# Altium footprint library Altium LCOGT PCB LIB.PCBLIB: 329 footprints (part 20 of 21)
Each footprint in its own frame and in the unit in brackets; x right, y up, seen from the top. Pads: shape width x height; smd on the part's side, far side on the other; paste and mask are expansions set on the pad; w line width, h text height; cw(c..) or ccw(c..) is an arc to the next point about the centre after c.
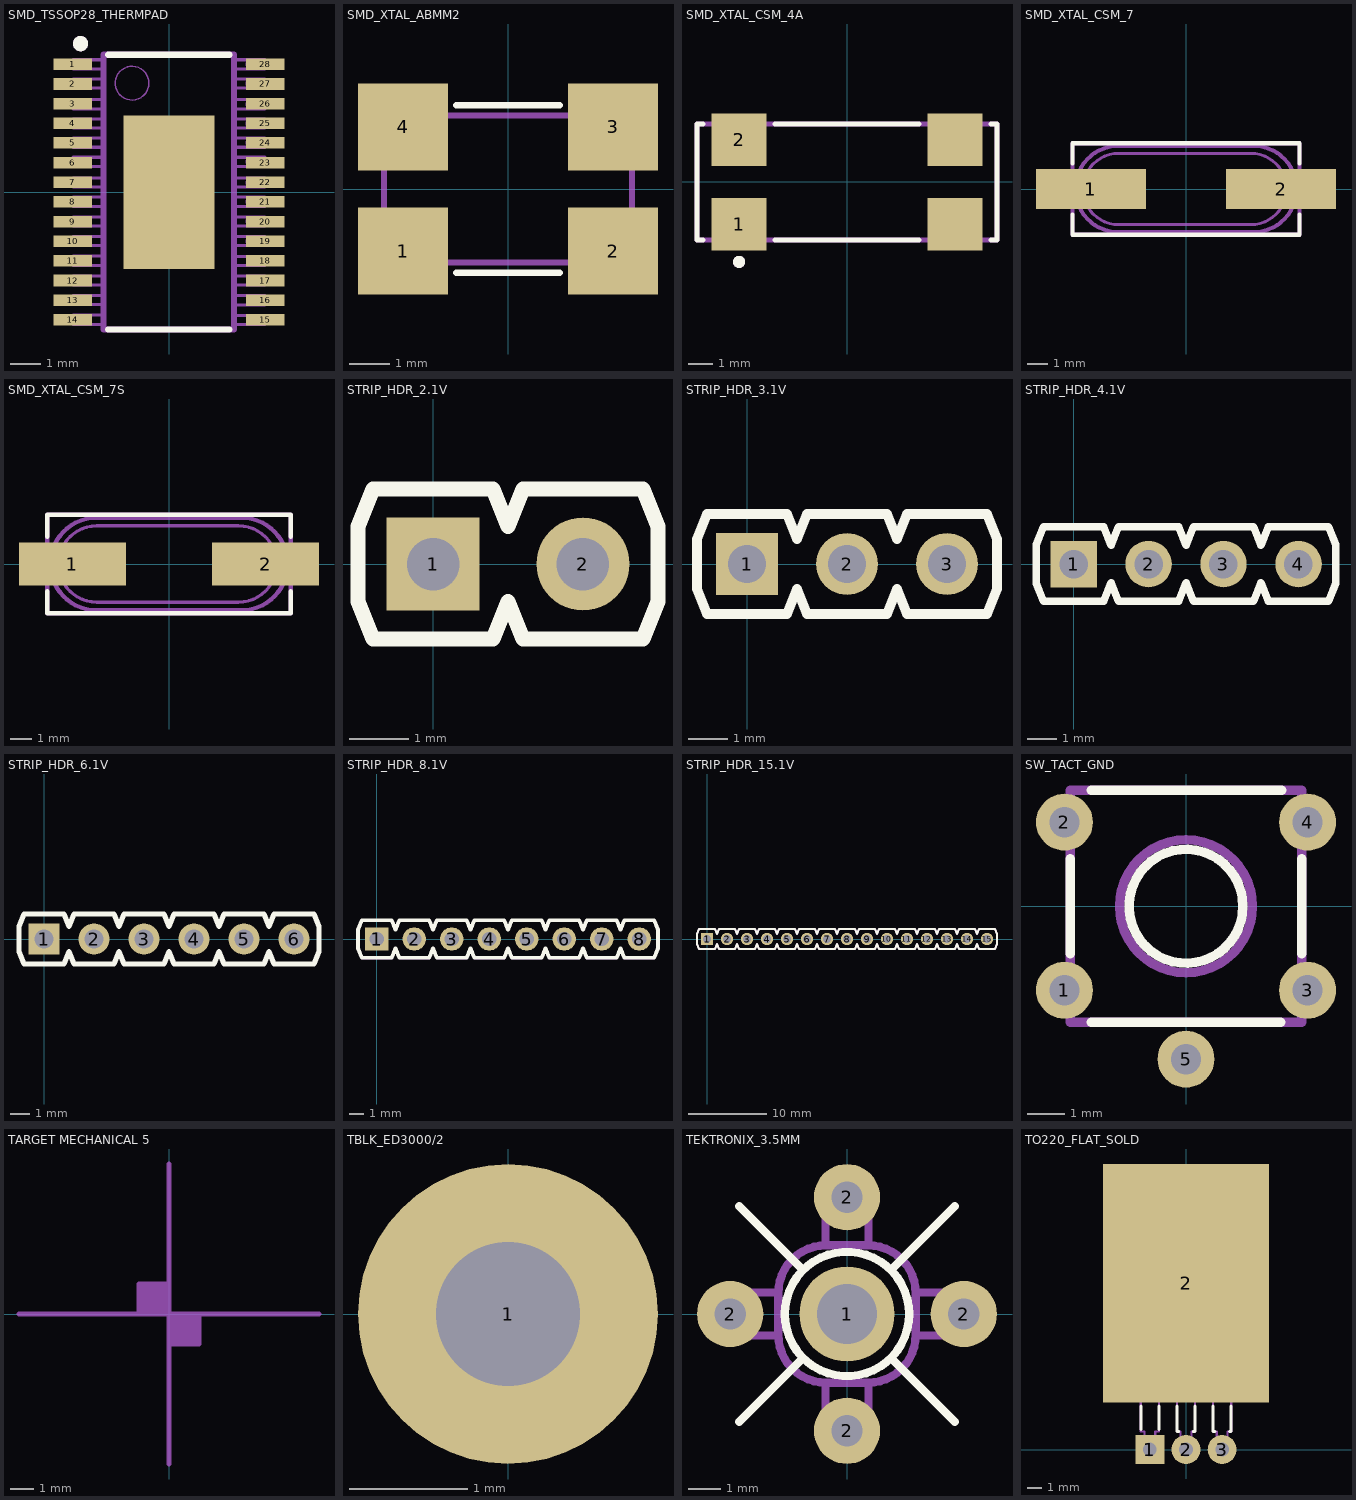
[diagram p19: the footprints below, top view; thin cyan lines are the x and y axes]

## SMD_TSSOP28_THERMPAD [mil]
pads (29):
  rect 50x15 smd: 1(-125.16,166.34) 2(-125.16,140.75) 3(-125.16,115.16) 4(-125.16,89.57) 5(-125.16,63.98) 6(-125.16,38.39) 7(-125.16,12.8) 8(-125.16,-12.8) 9(-125.16,-38.39) 10(-125.16,-63.98) 11(-125.16,-89.57) 12(-125.16,-115.16) 13(-125.16,-140.75) 14(-125.16,-166.34) 15(125.16,-166.34) 16(125.16,-140.75) 17(125.16,-115.16) 18(125.16,-89.57) 19(125.16,-63.98) 20(125.16,-38.39) 21(125.16,-12.8) 22(125.16,12.8) 23(125.16,38.39) 24(125.16,63.98) 25(125.16,89.57) 26(125.16,115.16) 27(125.16,140.75) 28(125.16,166.34)
  rect 118x200 smd: ""(0,0)
TopOverlay:
  circle w8: c-115.16,193.34 r6
  lines w8: -119.16,193.34 -111.16,193.34 ; -115.16,189.34 -115.16,197.34 ; -79.16,-179.02 78.84,-179.02 ; -79.16,178.84 78.84,178.84
Mechanical3:
  circle w8: c-115.16,193.34 r6
  circle w2: c-48.16,141.84 r22
  lines w2: -112.16,-168.2 -112.16,-164.2 ; -112.16,-142.61 -112.16,-138.61 ; -112.16,-117.02 -112.16,-113.02 ; -112.16,-91.43 -112.16,-87.43 ; -112.16,-65.84 -112.16,-61.84 ; -112.16,-40.25 -112.16,-36.25 ; -112.16,-14.66 -112.16,-10.66 ; -112.16,10.34 -112.16,14.34 ; -112.16,37.34 -112.16,41.34 ; -112.16,62.34 -112.16,66.34 ; -112.16,87.34 -112.16,91.34 ; -112.16,112.34 -112.16,116.34 ; -112.16,139.34 -112.16,143.34 ; -112.16,164.34 -112.16,168.34 ; -101.16,-168.2 -101.16,-164.2 ; -101.16,-142.61 -101.16,-138.61 ; -101.16,-117.02 -101.16,-113.02 ; -101.16,-91.43 -101.16,-87.43 ; -101.16,-65.84 -101.16,-61.84 ; -101.16,-40.25 -101.16,-36.25 ; -101.16,-14.66 -101.16,-10.66 ; -101.16,10.34 -101.16,14.34 ; -101.16,37.34 -101.16,41.34 ; -101.16,62.34 -101.16,66.34 ; -101.16,87.34 -101.16,91.34 ; -101.16,112.34 -101.16,116.34 ; -101.16,139.34 -101.16,143.34 ; -101.16,164.34 -101.16,168.34 ; 100.84,-65.84 100.84,-61.84 ; 100.84,-40.25 100.84,-36.25 ; 100.84,-14.66 100.84,-10.66 ; 100.84,10.34 100.84,14.34 ; 100.84,37.34 100.84,41.34 ; 100.84,62.34 100.84,66.34 ; 100.84,87.34 100.84,91.34 ; 100.84,112.34 100.84,116.34 ; 100.84,139.34 100.84,143.34 ; 100.84,164.34 100.84,168.34 ; 101.16,-168.47 101.16,-164.47 ; 101.16,-142.88 101.16,-138.88 ; 101.16,-117.29 101.16,-113.29 ; 101.16,-91.7 101.16,-87.7 ; 111.84,-65.84 111.84,-61.84 ; 111.84,-40.25 111.84,-36.25 ; 111.84,-14.66 111.84,-10.66 ; 111.84,10.34 111.84,14.34 ; 111.84,37.34 111.84,41.34 ; 111.84,62.34 111.84,66.34 ; 111.84,87.34 111.84,91.34 ; 111.84,112.34 111.84,116.34 ; 111.84,139.34 111.84,143.34 ; 111.84,164.34 111.84,168.34 ; 112.16,-168.47 112.16,-164.47 ; 112.16,-142.88 112.16,-138.88 ; 112.16,-117.29 112.16,-113.29 ; 112.16,-91.7 112.16,-87.7
  lines w4: -85.16,-172.2 -125.16,-172.2 -125.16,-160.2 -85.16,-160.2 ; -85.16,-146.61 -125.16,-146.61 -125.16,-134.61 -85.16,-134.61 ; -85.16,-121.02 -125.16,-121.02 -125.16,-109.02 -85.16,-109.02 ; -85.16,-95.43 -125.16,-95.43 -125.16,-83.43 -85.16,-83.43 ; -85.16,-69.84 -125.16,-69.84 -125.16,-57.84 -85.16,-57.84 ; -85.16,-44.25 -125.16,-44.25 -125.16,-32.25 -85.16,-32.25 ; -85.16,-18.66 -125.16,-18.66 -125.16,-6.66 -85.16,-6.66 ; -85.16,6.34 -125.16,6.34 -125.16,18.34 -85.16,18.34 ; -85.16,33.34 -125.16,33.34 -125.16,45.34 -85.16,45.34 ; -85.16,58.34 -125.16,58.34 -125.16,70.34 -85.16,70.34 ; -85.16,83.34 -125.16,83.34 -125.16,95.34 -85.16,95.34 ; -85.16,108.34 -125.16,108.34 -125.16,120.34 -85.16,120.34 ; -85.16,135.34 -125.16,135.34 -125.16,147.34 -85.16,147.34 ; -85.16,160.34 -125.16,160.34 -125.16,172.34 -85.16,172.34 ; 84.84,-69.84 124.84,-69.84 124.84,-57.84 84.84,-57.84 ; 84.84,-44.25 124.84,-44.25 124.84,-32.25 84.84,-32.25 ; 84.84,-18.66 124.84,-18.66 124.84,-6.66 84.84,-6.66 ; 84.84,6.34 124.84,6.34 124.84,18.34 84.84,18.34 ; 84.84,33.34 124.84,33.34 124.84,45.34 84.84,45.34 ; 84.84,58.34 124.84,58.34 124.84,70.34 84.84,70.34 ; 84.84,83.34 124.84,83.34 124.84,95.34 84.84,95.34 ; 84.84,108.34 124.84,108.34 124.84,120.34 84.84,120.34 ; 84.84,135.34 124.84,135.34 124.84,147.34 84.84,147.34 ; 84.84,160.34 124.84,160.34 124.84,172.34 84.84,172.34 ; 85.16,-172.47 125.16,-172.47 125.16,-160.47 85.16,-160.47 ; 85.16,-146.88 125.16,-146.88 125.16,-134.88 85.16,-134.88 ; 85.16,-121.29 125.16,-121.29 125.16,-109.29 85.16,-109.29 ; 85.16,-95.7 125.16,-95.7 125.16,-83.7 85.16,-83.7
  lines w8: -119.16,193.34 -111.16,193.34 ; -115.16,189.34 -115.16,197.34 ; -85.16,-179.02 84.84,-179.02 ; -85.16,-178.66 -85.16,-76.66 -85.16,178.34 ; -85.16,178.84 84.84,178.84 ; 84.84,-178.66 84.84,-76.66 84.84,178.34

## SMD_XTAL_ABMM2 [mil]
pads (4):
  rect 87x84 smd: 1(-101.5,-60) 2(101.5,-60) 3(101.5,60) 4(-101.5,60)
TopOverlay:
  lines w6: -50,-81 50,-81 ; -50,81 50,81
Mechanical3:
  lines w6: -120,-35.5 -120,61 -110,71 -90,71 -30,71 0,71 110,71 120,61 120,-61 110,-71 -110,-71 -120,-61 -120,-35

## SMD_XTAL_CSM_4A [mil]
pads (4):
  rect 90x86 smd: 1(-177,-69) 2(-177,69) ""(177,-69) ""(177,69)
TopOverlay:
  circle w8: c-177,-131 r6
  lines w8: -236,-95 -246,-95 -246,95 -236,95 ; -181,-131 -173,-131 ; -177,-135 -177,-127 ; -118,-95 118,-95 ; -118,95 118,95 ; 236,-95 246,-95 246,95 236,95
Mechanical3:
  circle w8: c-177,-131 r6
  lines w8: -181,-131 -173,-131 ; -177,-135 -177,-127 ; -246,-95 -246,95 246,95 246,-95 -246,-95

## SMD_XTAL_CSM_7 [mil]
pads (2):
  rect 216x78 smd: 1(-187,0) 2(187,0)
TopOverlay:
  lines w8: -223,-50 -223,-90 223,-90 223,-50 ; -223,50 -223,90 223,90 223,50
Mechanical3:
  lines w4: -223,-12 -250,-12 -250,12 -223,12 ; 223,-12 250,-12 250,12 223,12
  lines w6: -132.5,-70 cw(c-132.5,0) -132.5,70 127.5,70 cw(c127.5,0) 127.5,-70 -132.5,-70
  lines w8: -223,-90 223,-90 223,90 -223,90 -223,-90 ; -132.5,-85 cw(c-132.5,0) -132.5,85 132.5,85 cw(c132.5,0) 132.5,-85 -132.5,-85

## SMD_XTAL_CSM_7S [mil]
pads (2):
  rect 196x78 smd: 1(-177,0) 2(177,0)
TopOverlay:
  lines w8: -223,-50 -223,-90 223,-90 223,-50 ; -223,50 -223,90 223,90 223,50
Mechanical3:
  lines w4: -223,-12 -250,-12 -250,12 -223,12 ; 223,-12 250,-12 250,12 223,12
  lines w6: -132.5,-70 cw(c-132.5,0) -132.5,70 127.5,70 cw(c127.5,0) 127.5,-70 -132.5,-70
  lines w8: -223,-90 -223,90 223,90 223,-90 -223,-90 ; -132.5,-85 cw(c-132.5,0) -132.5,85 132.5,85 cw(c132.5,0) 132.5,-85 -132.5,-85

## STRIP_HDR_2.1V [mil]
pads (2):
  rect 62x62 hole 35: 1(0,0)
  round 62 hole 35: 2(100,0)
TopOverlay:
  lines w10: -50,-25 -40,-50 40,-50 50,-25 60,-50 140,-50 150,-25 150,25 140,50 60,50 50,25 40,50 -40,50 -50,25 -50,-25
Mechanical3:
  lines w2: -13,-13 -5,-5 ; -13,13 -5,5 ; 13,-13 5,-5 ; 13,13 5,5 ; 87,-13 95,-5 ; 87,13 95,5 ; 113,-13 105,-5 ; 113,13 105,5 ; -5,-5 5,-5 ; -5,-5 -5,5 ; -5,5 5,5 ; 5,-5 5,5 ; 95,-5 105,-5 ; 95,-5 95,5 ; 95,5 105,5 ; 105,-5 105,5
  lines w4: -13,-13 13,-13 13,13 -13,13 -13,-13 ; 87,-13 113,-13 113,13 87,13 87,-13
  lines w8: -50,-25 -50,25 -40,50 40,50 50,25 60,50 140,50 150,25 150,-25 140,-50 60,-50 50,-25 40,-50 -40,-50 -50,-25

## STRIP_HDR_3.1V [mil]
pads (3):
  rect 62x62 hole 38: 1(0,0)
  round 62 hole 38: 2(100,0) 3(200,0)
TopOverlay:
  lines w10: 140,-50 150,-25 ; 140,-50 60,-50 50,-25 40,-50 -40,-50 -50,-25 -50,25 -40,50 40,50 50,25 60,50 140,50 ; 140,-50 150,-25 ; 140,50 150,25 ; 140,50 150,25 ; 150,-25 160,-50 240,-50 ; 150,25 160,50 240,50 ; 240,-50 250,-25 ; 240,-50 250,-25 ; 240,50 250,25 ; 240,50 250,25 ; 250,-25 250,25
Mechanical3:
  lines w2: -13,-13 -5,-5 ; -13,13 -5,5 ; 13,-13 5,-5 ; 13,13 5,5 ; 87,-13 95,-5 ; 87,13 95,5 ; 113,-13 105,-5 ; 113,13 105,5 ; 187,-13 195,-5 ; 187,13 195,5 ; 213,-13 205,-5 ; 213,13 205,5 ; -5,-5 -5,5 ; -5,-5 5,-5 ; -5,5 5,5 ; 5,-5 5,5 ; 95,-5 95,5 ; 95,-5 105,-5 ; 95,5 105,5 ; 105,-5 105,5 ; 195,-5 195,5 ; 195,-5 205,-5 ; 195,5 205,5 ; 205,-5 205,5
  lines w4: -13,-13 -13,13 13,13 13,-13 -13,-13 ; 87,-13 87,13 113,13 113,-13 87,-13 ; 187,-13 187,13 213,13 213,-13 187,-13
  lines w8: 140,-50 150,-25 ; 140,-50 150,-25 ; 140,-50 60,-50 50,-25 40,-50 -40,-50 -50,-25 -50,25 -40,50 40,50 50,25 60,50 140,50 ; 140,50 150,25 ; 140,50 150,25 ; 150,-25 160,-50 240,-50 ; 150,25 160,50 240,50 ; 240,-50 250,-25 ; 240,-50 250,-25 ; 240,50 250,25 ; 240,50 250,25 ; 250,-25 250,25

## STRIP_HDR_4.1V [mil]
pads (4):
  rect 62x62 hole 38: 1(0,0)
  round 62 hole 38: 2(100,0) 3(200,0) 4(300,0)
TopOverlay:
  lines w10: 140,-50 150,-25 ; 140,-50 60,-50 50,-25 40,-50 -40,-50 -50,-25 -50,25 -40,50 40,50 50,25 60,50 140,50 ; 140,-50 150,-25 ; 140,50 150,25 ; 140,50 150,25 ; 150,-25 160,-50 240,-50 ; 150,25 160,50 240,50 ; 240,-50 250,-25 ; 240,-50 250,-25 ; 240,50 250,25 ; 240,50 250,25 ; 250,-25 260,-50 340,-50 ; 250,25 260,50 340,50 ; 340,-50 350,-25 ; 340,-50 350,-25 ; 340,50 350,25 ; 340,50 350,25 ; 350,-25 350,25
Mechanical3:
  lines w2: -13,-13 -5,-5 ; -13,13 -5,5 ; 13,-13 5,-5 ; 13,13 5,5 ; 87,-13 95,-5 ; 87,13 95,5 ; 113,-13 105,-5 ; 113,13 105,5 ; 187,-13 195,-5 ; 187,13 195,5 ; 213,-13 205,-5 ; 213,13 205,5 ; 287,-13 295,-5 ; 287,13 295,5 ; 313,-13 305,-5 ; 313,13 305,5 ; -5,-5 5,-5 ; -5,-5 -5,5 ; -5,5 5,5 ; 5,-5 5,5 ; 95,-5 105,-5 ; 95,-5 95,5 ; 95,5 105,5 ; 105,-5 105,5 ; 195,-5 205,-5 ; 195,-5 195,5 ; 195,5 205,5 ; 205,-5 205,5 ; 295,-5 305,-5 ; 295,-5 295,5 ; 295,5 305,5 ; 305,-5 305,5
  lines w4: -13,-13 13,-13 13,13 -13,13 -13,-13 ; 87,-13 113,-13 113,13 87,13 87,-13 ; 187,-13 213,-13 213,13 187,13 187,-13 ; 287,-13 313,-13 313,13 287,13 287,-13
  lines w8: 140,-50 60,-50 50,-25 40,-50 -40,-50 -50,-25 -50,25 -40,50 40,50 50,25 60,50 140,50 ; 140,-50 150,-25 ; 140,-50 150,-25 ; 140,50 150,25 ; 140,50 150,25 ; 150,-25 160,-50 240,-50 ; 150,25 160,50 240,50 ; 240,-50 250,-25 ; 240,-50 250,-25 ; 240,50 250,25 ; 240,50 250,25 ; 250,-25 260,-50 340,-50 ; 250,25 260,50 340,50 ; 340,-50 350,-25 ; 340,-50 350,-25 ; 340,50 350,25 ; 340,50 350,25 ; 350,-25 350,25

## STRIP_HDR_6.1V [mil]
pads (6):
  rect 62x62 hole 38: 1(0,0)
  round 62 hole 38: 2(100,0) 3(200,0) 4(300,0) 5(400,0) 6(500,0)
TopOverlay:
  lines w10: 140,-50 150,-25 ; 140,-50 60,-50 50,-25 40,-50 -40,-50 -50,-25 -50,25 -40,50 40,50 50,25 60,50 140,50 ; 140,-50 150,-25 ; 140,50 150,25 ; 140,50 150,25 ; 150,-25 160,-50 240,-50 ; 150,25 160,50 240,50 ; 240,-50 250,-25 ; 240,-50 250,-25 ; 240,50 250,25 ; 240,50 250,25 ; 250,-25 260,-50 340,-50 ; 250,25 260,50 340,50 ; 340,-50 350,-25 ; 340,-50 350,-25 ; 340,50 350,25 ; 340,50 350,25 ; 350,-25 360,-50 440,-50 ; 350,25 360,50 440,50 ; 440,-50 450,-25 ; 440,-50 450,-25 ; 440,50 450,25 ; 440,50 450,25 ; 450,-25 460,-50 540,-50 550,-25 550,25 540,50 460,50 450,25
Mechanical3:
  lines w2: -13,-13 -5,-5 ; -13,13 -5,5 ; 13,-13 5,-5 ; 13,13 5,5 ; 87,-13 95,-5 ; 87,13 95,5 ; 113,-13 105,-5 ; 113,13 105,5 ; 187,-13 195,-5 ; 187,13 195,5 ; 213,-13 205,-5 ; 213,13 205,5 ; 287,-13 295,-5 ; 287,13 295,5 ; 313,-13 305,-5 ; 313,13 305,5 ; 387,-13 395,-5 ; 387,13 395,5 ; 413,-13 405,-5 ; 413,13 405,5 ; 487,-13 495,-5 ; 487,13 495,5 ; 513,-13 505,-5 ; 513,13 505,5 ; -5,-5 5,-5 ; -5,-5 -5,5 ; -5,5 5,5 ; 5,-5 5,5 ; 95,-5 105,-5 ; 95,-5 95,5 ; 95,5 105,5 ; 105,-5 105,5 ; 195,-5 205,-5 ; 195,-5 195,5 ; 195,5 205,5 ; 205,-5 205,5 ; 295,-5 305,-5 ; 295,-5 295,5 ; 295,5 305,5 ; 305,-5 305,5 ; 395,-5 405,-5 ; 395,-5 395,5 ; 395,5 405,5 ; 405,-5 405,5 ; 495,-5 505,-5 ; 495,-5 495,5 ; 495,5 505,5 ; 505,-5 505,5
  lines w4: -13,-13 13,-13 13,13 -13,13 -13,-13 ; 87,-13 113,-13 113,13 87,13 87,-13 ; 187,-13 213,-13 213,13 187,13 187,-13 ; 287,-13 313,-13 313,13 287,13 287,-13 ; 387,-13 413,-13 413,13 387,13 387,-13 ; 487,-13 513,-13 513,13 487,13 487,-13
  lines w8: 140,-50 60,-50 50,-25 40,-50 -40,-50 -50,-25 -50,25 -40,50 40,50 50,25 60,50 140,50 ; 140,-50 150,-25 ; 140,-50 150,-25 ; 140,50 150,25 ; 140,50 150,25 ; 150,-25 160,-50 240,-50 ; 150,25 160,50 240,50 ; 240,-50 250,-25 ; 240,-50 250,-25 ; 240,50 250,25 ; 240,50 250,25 ; 250,-25 260,-50 340,-50 ; 250,25 260,50 340,50 ; 340,-50 350,-25 ; 340,-50 350,-25 ; 340,50 350,25 ; 340,50 350,25 ; 350,-25 360,-50 440,-50 ; 350,25 360,50 440,50 ; 440,-50 450,-25 ; 440,-50 450,-25 ; 440,50 450,25 ; 440,50 450,25 ; 450,-25 460,-50 540,-50 550,-25 550,25 540,50 460,50 450,25

## STRIP_HDR_8.1V [mil]
pads (8):
  rect 62x62 hole 38: 1(0,0)
  round 62 hole 38: 2(100,0) 3(200,0) 4(300,0) 5(400,0) 6(500,0) 7(600,0) 8(700,0)
TopOverlay:
  lines w10: 140,-50 150,-25 ; 140,-50 60,-50 50,-25 40,-50 -40,-50 -50,-25 -50,25 -40,50 40,50 50,25 60,50 140,50 ; 140,-50 150,-25 ; 140,50 150,25 ; 140,50 150,25 ; 150,-25 160,-50 240,-50 ; 150,25 160,50 240,50 ; 240,-50 250,-25 ; 240,-50 250,-25 ; 240,50 250,25 ; 240,50 250,25 ; 250,-25 260,-50 340,-50 ; 250,25 260,50 340,50 ; 340,-50 350,-25 ; 340,-50 350,-25 ; 340,50 350,25 ; 340,50 350,25 ; 350,-25 360,-50 440,-50 ; 350,25 360,50 440,50 ; 440,-50 450,-25 ; 440,-50 450,-25 ; 440,50 450,25 ; 440,50 450,25 ; 450,-25 460,-50 540,-50 550,-25 560,-50 640,-50 ; 450,25 460,50 540,50 550,25 560,50 640,50 ; 640,-50 650,-25 ; 640,-50 650,-25 ; 640,50 650,25 ; 640,50 650,25 ; 650,-25 660,-50 740,-50 750,-25 750,25 740,50 660,50 650,25
Mechanical3:
  drawing of 156 lines, arcs and shapes, not listed

## STRIP_HDR_15.1V [mil]
pads (15):
  rect 62x62 hole 38: 1(0,0)
  round 62 hole 38: 2(100,0) 3(200,0) 4(300,0) 5(400,0) 6(500,0) 7(600,0) 8(700,0) 9(800,0) 10(900,0) 11(1000,0) 12(1100,0) 13(1200,0) 14(1300,0) 15(1400,0)
TopOverlay:
  lines w10: 140,-50 150,-25 ; 140,-50 60,-50 50,-25 40,-50 -40,-50 -50,-25 -50,25 -40,50 40,50 50,25 60,50 140,50 ; 140,-50 150,-25 ; 140,50 150,25 ; 140,50 150,25 ; 150,-25 160,-50 240,-50 ; 150,25 160,50 240,50 ; 240,-50 250,-25 ; 240,-50 250,-25 ; 240,50 250,25 ; 240,50 250,25 ; 250,-25 260,-50 340,-50 ; 250,25 260,50 340,50 ; 340,-50 350,-25 ; 340,-50 350,-25 ; 340,50 350,25 ; 340,50 350,25 ; 350,-25 360,-50 440,-50 ; 350,25 360,50 440,50 ; 440,-50 450,-25 ; 440,-50 450,-25 ; 440,50 450,25 ; 440,50 450,25 ; 450,-25 460,-50 540,-50 550,-25 560,-50 640,-50 ; 450,25 460,50 540,50 550,25 560,50 640,50 ; 640,-50 650,-25 ; 640,-50 650,-25 ; 640,50 650,25 ; 640,50 650,25 ; 650,-25 660,-50 740,-50 750,-25 760,-50 840,-50 ; 650,25 660,50 740,50 750,25 760,50 840,50 ; 840,-50 850,-25 ; 840,-50 850,-25 ; 840,50 850,25 ; 840,50 850,25 ; 850,-25 860,-50 940,-50 ; 850,25 860,50 940,50 ; 940,-50 950,-25 ; 940,-50 950,-25 ; 940,50 950,25 ; 940,50 950,25 ; 950,-25 960,-50 1040,-50 ; 950,25 960,50 1040,50 ; 1040,-50 1050,-25 ; 1040,-50 1050,-25 ; 1040,50 1050,25 ; 1040,50 1050,25 ; 1050,-25 1060,-50 1140,-50 ; 1050,25 1060,50 1140,50 ; 1140,-50 1150,-25 ; 1140,-50 1150,-25 ; 1140,50 1150,25 ; 1140,50 1150,25 ; 1150,-25 1160,-50 1240,-50 1250,-25 1260,-50 1340,-50 ; 1150,25 1160,50 1240,50 1250,25 1260,50 1340,50 ; 1340,-50 1350,-25 ; 1340,-50 1350,-25 ; 1340,50 1350,25 ; 1340,50 1350,25 ; 1350,-25 1360,-50 1440,-50 1450,-25 1450,25 1440,50 1360,50 1350,25
Mechanical3:
  drawing of 292 lines, arcs and shapes, not listed

## SW_TACT_GND [mil] "TACTILE MOM NO SWITCH 6MM SQ. W/ ESD GND"
height 197
pads (5):
  round 60 hole 32: 1(-128,-88.5) 2(-128,88.5) 3(128,-88.5) 4(128,88.5) 5(0,-161)
TopOverlay:
  circle w10: c0,0 r60
  lines w10: -122,-50 -122,50 ; -100,-122 100,-122 ; -100,122 101,122 ; 122,-50 122,50
Mechanical3:
  circle w10: c0,0 r70
  lines w10: -122,-122 122,-122 122,122 -122,122 -122,-122

## TARGET MECHANICAL 5 [mil]
Mechanical5:
  lines w8: -250,0 250,0 ; -50,0 -50,50 0,50 ; -40,35 -40,10 -10,10 -10,40 -40,40 ; -35,30 -35,15 -15,15 -15,35 -35,35 ; -30,25 -20,25 ; 0,-250 0,250 ; 0,-50 50,-50 50,0 ; 10,-15 10,-40 40,-40 40,-10 10,-10 ; 15,-20 15,-35 35,-35 35,-15 15,-15 ; 20,-25 30,-25 ; -45,5 -5,5 -5,45 -45,45 -45,5 ; -30,20 -20,20 -20,30 -30,30 -30,20 ; 5,-45 45,-45 45,-5 5,-5 5,-45 ; 20,-30 30,-30 30,-20 20,-20 20,-30

## TBLK_ED3000/2 [mil]
pads (1):
  round 100 hole 48: 1(0,0)

## TEKTRONIX_3.5MM [mil]
pads (5):
  round 115 hole 73: 1(0,0)
  round 80 hole 38: 2(-141,0) 2(0,-141) 2(0,141) 2(141,0)
TopOverlay:
  circle w10: c0,0 r75
  lines w10: -130,-130 -53,-53 ; -130,130 -53,53 ; 53,-53 130,-130 ; 53,53 130,130
Mechanical3:
  circle w10: c0,0 r38
  lines w10: -83,-24.96 ccw(c-24.96,-24.96) -66,-66 ccw(c-24.96,-24.96) -24.96,-83 ; -83,24.96 cw(c-24.96,24.96) -66,66 cw(c-24.96,24.96) -24.96,83 ; 24.96,-83 ccw(c24.96,-24.96) 66,-66 ccw(c24.96,-24.96) 83,-24.96 ; 24.96,83 cw(c24.96,24.96) 66,66 cw(c24.96,24.96) 83,24.96 ; -141,-26 -141,26 -83,26 -83,-26 -141,-26 ; -26,-141 -26,-83 26,-83 26,-141 -26,-141 ; -26,83 -26,141 26,141 26,83 -26,83 ; 83,-26 141,-26 141,26 83,26 83,-26

## TO220_FLAT_SOLD [mil]
pads (4):
  rect 80x80 hole 38: 1(-100,0)
  round 80 hole 38: 2(0,0) 3(100,0)
  rect 460x660 smd: 2(0,460)
TopOverlay:
  lines w8: -125,55 -125,120 ; -75,55 -75,120 ; -25,120 -25,50 -20,50 ; 20,50 25,50 25,120 ; 75,120 75,50 80,50 ; 120,50 125,50 125,120
Mechanical3:
  circle w10: c0,650 r75
  lines w6: -200,510 -185,495 ; -185,160 -185,495 ; -125,160 -125,50 -115,50 -115,-10 -85,-10 -85,50 -75,50 -75,160 ; -25,160 -25,50 -15,50 -15,-10 15,-10 15,50 25,50 25,160 ; 75,160 75,50 85,50 85,-10 115,-10 115,50 125,50 125,160 ; 185,160 185,495 ; 200,510 185,495 ; -185,495 185,495
  lines w10: -200,510 200,510 ; -200,160 -200,760 200,760 200,160 -200,160